# Altium footprint library PCB - DIODE - LED - RGB - COM ANODE 4-PLCC.PCBLIB: 1 footprints
Each footprint in its own frame and in the unit in brackets; x right, y up, seen from the top. Pads: shape width x height; smd on the part's side, far side on the other; paste and mask are expansions set on the pad; w line width, h text height; cw(c..) or ccw(c..) is an arc to the next point about the centre after c.
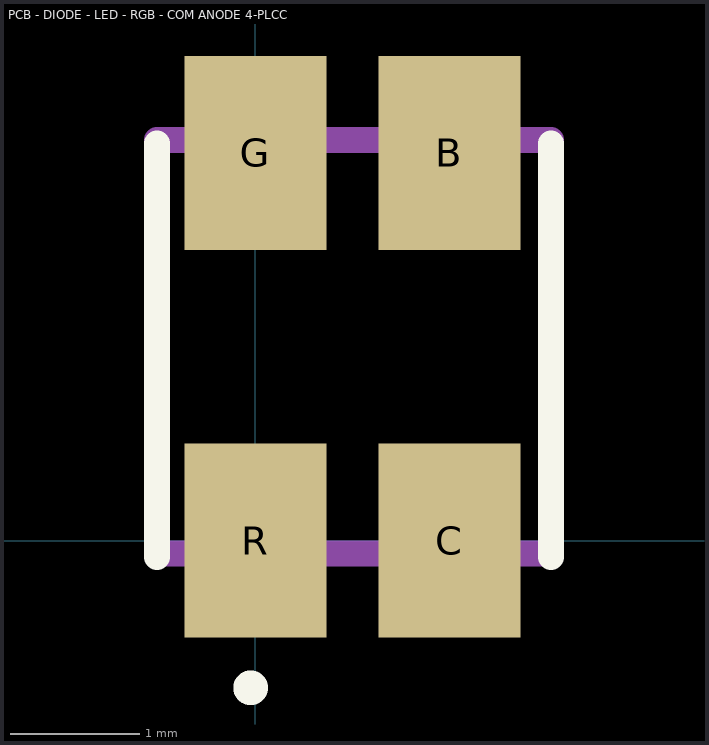
[diagram p0: the footprint, top view; thin cyan lines are the x and y axes]

## PCB - DIODE - LED - RGB - COM ANODE 4-PLCC [mm] "RGB LED Common Anode"
pads (4):
  rect 1.1x1.5 smd: B(1.5,3) C(1.5,0) G(0,3) R(0,0)
Top Overlay:
  circle w0.2: c-0.038,-1.138 r0.034
  lines w0.2: -0.762,-0.127 -0.762,3.073 ; 2.286,-0.127 2.286,3.073
Mechanical 13:
  lines w0.2: -0.762,-0.1 -0.762,3.1 2.286,3.1 2.286,-0.1 -0.762,-0.1
3D body "ASMB-MTB1-0A3A2.stp": height 1.9, standoff 0, extent -0.638,-0.226 2.162,3.274